# Altium footprint library ZYF_IC.PcbLib: 25 footprints (part 1 of 2)
Each footprint in its own frame and in the unit in brackets; x right, y up, seen from the top. Pads: shape width x height; smd on the part's side, far side on the other; paste and mask are expansions set on the pad; w line width, h text height; cw(c..) or ccw(c..) is an arc to the next point about the centre after c.
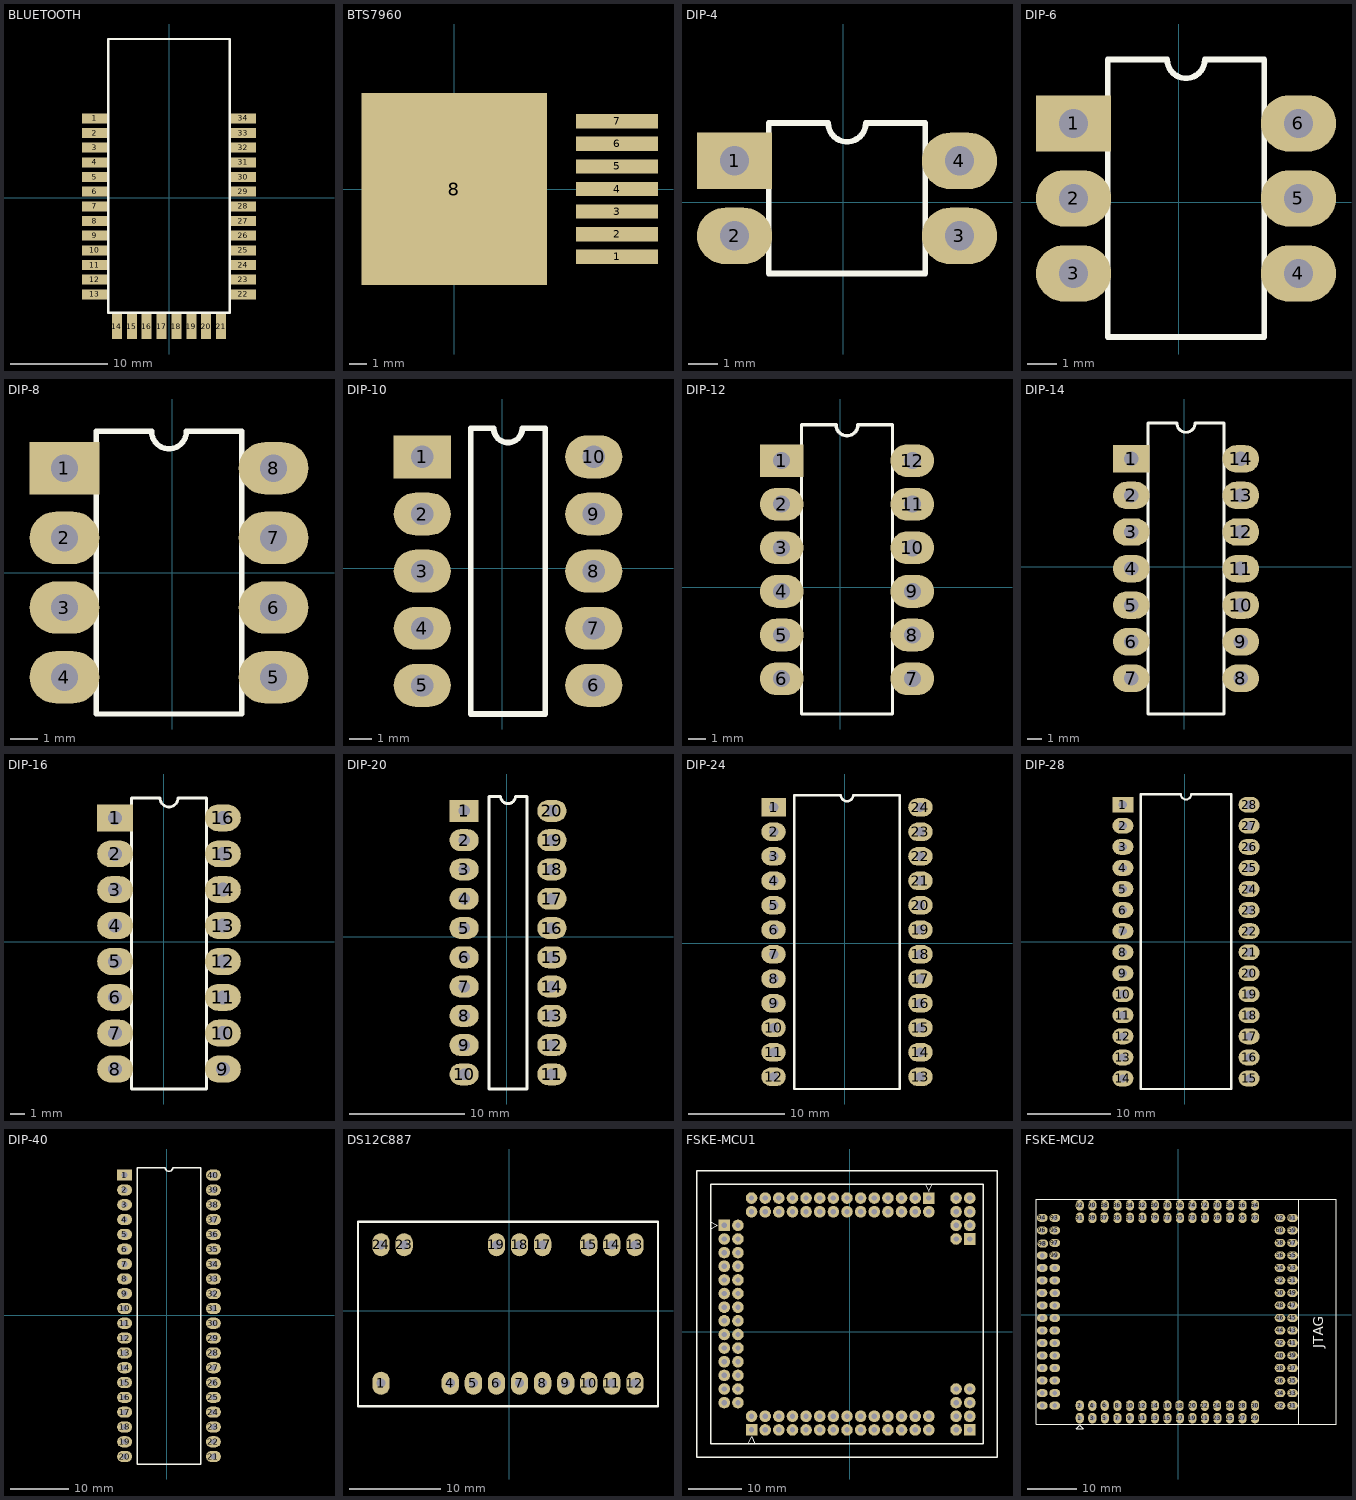
[diagram p0: the footprints below, top view; thin cyan lines are the x and y axes]

## BLUETOOTH [mil]
pads (34):
  rect 100x40 smd: 1(-300,320) 2(-300,260.83) 3(-300,201.67) 4(-300,142.5) 5(-300,83.33) 6(-300,24.17) 7(-300,-35) 8(-300,-94.17) 9(-300,-153.33) 10(-300,-212.5) 11(-300,-271.67) 12(-300,-330.83) 13(-300,-390) 22(300,-390) 23(300,-330.83) 24(300,-271.67) 25(300,-212.5) 26(300,-153.33) 27(300,-94.17) 28(300,-35) 29(300,24.17) 30(300,83.33) 31(300,142.5) 32(300,201.67) 33(300,260.83) 34(300,320)
  rect 40x100 smd: 14(-210,-520) 15(-150,-520) 16(-90,-520) 17(-30,-520) 18(30,-520) 19(90,-520) 20(150,-520) 21(210,-520)
Top Overlay:
  lines w10: -245,-465 -245,640 245,640 245,-465 -245,-465

## BTS7960 [mm]
pads (8):
  rect 4.6x0.8 smd: 1(9.144,-3.81) 2(9.144,-2.54) 3(9.144,-1.27) 4(9.144,0) 5(9.144,1.27) 6(9.144,2.54) 7(9.144,3.81)
  rect 10.414x10.8 smd: 8(0,0)

## DIP-4 [mil]
pads (4):
  rect 100x75 hole 39: 1(-145,55)
  oval 100x75 hole 39: 2(-145,-45) 3(155,-45) 4(155,55)
Top Overlay:
  lines w7.87: -99.33,-95.39 -99.33,105.39 -20,105.39 ccw(c5,105.39) 30,105.39 109.33,105.39 109.33,-95.39 -99.33,-95.39

## DIP-6 [mil]
pads (6):
  rect 100x75 hole 39 paste+0 mask+4: 1(-140,105)
  oval 100x75 hole 39 paste+0 mask+4: 2(-140,5) 3(-140,-95) 4(160,-95) 5(160,5) 6(160,105)
Top Overlay:
  lines w7.87: -94.33,-180.04 114.33,-180.04 114.33,190.04 35,190.04 cw(c10,190.04) -15,190.04 -94.33,190.04 -94.33,-180.04

## DIP-8 [mil]
pads (8):
  rect 100x75 hole 39: 1(-155,150)
  oval 100x75 hole 39: 2(-155,50) 3(-155,-50) 4(-155,-150) 5(145,-150) 6(145,-50) 7(145,50) 8(145,150)
Top Overlay:
  lines w7.87: -109.33,-202.76 99.33,-202.76 99.33,202.76 20,202.76 cw(c-5,202.76) -30,202.76 -109.33,202.76 -109.33,-202.76

## DIP-10 [mil]
pads (10):
  rect 100x75 hole 39: 1(-140,195)
  oval 100x75 hole 39: 2(-140,95) 3(-140,-5) 4(-140,-105) 5(-140,-205) 6(160,-205) 7(160,-105) 8(160,-5) 9(160,95) 10(160,195)
Top Overlay:
  lines w10: -55,-255 -55,245 -15,245 ccw(c10,245) 35,245 75,245 75,-255 -55,-255

## DIP-12 [mil]
pads (12):
  rect 100x75 hole 39: 1(-135,290)
  oval 100x75 hole 39: 2(-135,190) 3(-135,90) 4(-135,-10) 5(-135,-110) 6(-135,-210) 7(165,-210) 8(165,-110) 9(165,-10) 10(165,90) 11(165,190) 12(165,290)
Top Overlay:
  lines w7.87: -89.33,-291.1 119.33,-291.1 119.33,371.89 40,371.89 cw(c15,371.89) -10,371.89 -89.33,371.89 -89.33,-291.1

## DIP-14 [mil]
pads (14):
  rect 100x75 hole 39: 1(-145,295)
  oval 100x75 hole 39: 2(-145,195) 3(-145,95) 4(-145,-5) 5(-145,-105) 6(-145,-205) 7(-145,-305) 8(155,-305) 9(155,-205) 10(155,-105) 11(155,-5) 12(155,95) 13(155,195) 14(155,295)
Top Overlay:
  lines w7.87: -99.33,-402.64 -99.33,392.64 -20,392.64 ccw(c5,392.64) 30,392.64 109.33,392.64 109.33,-402.64 -99.33,-402.64

## DIP-16 [mil]
pads (16):
  rect 100x75 hole 39: 1(-135,345)
  oval 100x75 hole 39: 2(-135,245) 3(-135,145) 4(-135,45) 5(-135,-55) 6(-135,-155) 7(-135,-255) 8(-135,-355) 9(165,-355) 10(165,-255) 11(165,-155) 12(165,-55) 13(165,45) 14(165,145) 15(165,245) 16(165,345)
Top Overlay:
  lines w7.87: -89.33,-410.51 119.33,-410.51 119.33,400.51 40,400.51 cw(c15,400.51) -10,400.51 -89.33,400.51 -89.33,-410.51

## DIP-20 [mil]
pads (20):
  rect 100x75 hole 39: 1(-145,430)
  oval 100x75 hole 39: 2(-145,330) 3(-145,230) 4(-145,130) 5(-145,30) 6(-145,-70) 7(-145,-170) 8(-145,-270) 9(-145,-370) 10(-145,-470) 11(155,-470) 12(155,-370) 13(155,-270) 14(155,-170) 15(155,-70) 16(155,30) 17(155,130) 18(155,230) 19(155,330) 20(155,430)
Top Overlay:
  lines w10: -60,-520 -60,480 -20,480 ccw(c5,480) 30,480 70,480 70,-520 -60,-520

## DIP-24 [mil]
pads (24):
  rect 100x75 hole 39: 1(-290,555)
  oval 100x75 hole 39: 2(-290,455) 3(-290,355) 4(-290,255) 5(-290,155) 6(-290,55) 7(-290,-45) 8(-290,-145) 9(-290,-245) 10(-290,-345) 11(-290,-445) 12(-290,-545) 13(310,-545) 14(310,-445) 15(310,-345) 16(310,-245) 17(310,-145) 18(310,-45) 19(310,55) 20(310,155) 21(310,255) 22(310,355) 23(310,455) 24(310,555)
Top Overlay:
  lines w10: -205,-595 -205,605 -15,605 ccw(c10,605) 35,605 225,605 225,-595 -205,-595

## DIP-28 [mil]
pads (28):
  rect 100x75 hole 39: 1(-295,650)
  oval 100x75 hole 39: 2(-295,550) 3(-295,450) 4(-295,350) 5(-295,250) 6(-295,150) 7(-295,50) 8(-295,-50) 9(-295,-150) 10(-295,-250) 11(-295,-350) 12(-295,-450) 13(-295,-550) 14(-295,-650) 15(305,-650) 16(305,-550) 17(305,-450) 18(305,-350) 19(305,-250) 20(305,-150) 21(305,-50) 22(305,50) 23(305,150) 24(305,250) 25(305,350) 26(305,450) 27(305,550) 28(305,650)
Top Overlay:
  lines w10: -210,-700 220,-700 220,700 30,700 cw(c5,700) -20,700 -210,700 -210,-700

## DIP-40 [mil]
pads (40):
  rect 100x75 hole 39: 1(-285,945)
  oval 100x75 hole 39: 2(-285,845) 3(-285,745) 4(-285,645) 5(-285,545) 6(-285,445) 7(-285,345) 8(-285,245) 9(-285,145) 10(-285,45) 11(-285,-55) 12(-285,-155) 13(-285,-255) 14(-285,-355) 15(-285,-455) 16(-285,-555) 17(-285,-655) 18(-285,-755) 19(-285,-855) 20(-285,-955) 21(315,-955) 22(315,-855) 23(315,-755) 24(315,-655) 25(315,-555) 26(315,-455) 27(315,-355) 28(315,-255) 29(315,-155) 30(315,-55) 31(315,45) 32(315,145) 33(315,245) 34(315,345) 35(315,445) 36(315,545) 37(315,645) 38(315,745) 39(315,845) 40(315,945)
Top Overlay:
  lines w10: -200,-1005 230,-1005 230,995 40,995 cw(c15,995) -10,995 -200,995 -200,-1005

## DS12C887 [mil]
pads (18):
  oval 75x100 hole 39: 1(-555,-315) 4(-255,-315) 5(-155,-315) 6(-55,-315) 7(45,-315) 8(145,-315) 9(245,-315) 10(345,-315) 11(445,-315) 12(545,-315) 13(545,285) 14(445,285) 15(345,285) 17(145,285) 18(45,285) 19(-55,285) 23(-455,285) 24(-555,285)
Top Overlay:
  lines w10: -655,-415 645,-415 645,385 -655,385 -655,-415

## FSKE-MCU1 [mil]
pads (100):
  rect 85x85 hole 39 paste+0: 101(-720,-720) 201(-920,780) 301(580,980) 401(880,-720) 501(880,680)
  round 85 hole 39 paste+0: 102(-720,-620) 103(-620,-720) 104(-620,-620) 105(-520,-720) 106(-520,-620) 107(-420,-720) 108(-420,-620) 109(-320,-720) 110(-320,-620) 111(-220,-720) 112(-220,-620) 113(-120,-720) 114(-120,-620) 115(-20,-720) 116(-20,-620) 117(80,-720) 118(80,-620) 119(180,-720) 120(180,-620) 121(280,-720) 122(280,-620) 123(380,-720) 124(380,-620) 125(480,-720) 126(480,-620) 127(580,-720) 128(580,-620) 202(-820,780) 203(-920,680) 204(-820,680) 205(-920,580) 206(-820,580) 207(-920,480) 208(-820,480) 209(-920,380) 210(-820,380) 211(-920,280) 212(-820,280) 213(-920,180) 214(-820,180) 215(-920,80) 216(-820,80) 217(-920,-20) 218(-820,-20) 219(-920,-120) 220(-820,-120) 221(-920,-220) 222(-820,-220) 223(-920,-320) 224(-820,-320) 225(-920,-420) 226(-820,-420) 227(-920,-520) 228(-820,-520) 302(580,880) 303(480,980) 304(480,880) 305(380,980) 306(380,880) 307(280,980) 308(280,880) 309(180,980) 310(180,880) 311(80,980) 312(80,880) 313(-20,980) 314(-20,880) 315(-120,980) 316(-120,880) 317(-220,980) 318(-220,880) 319(-320,980) 320(-320,880) 321(-420,980) 322(-420,880) 323(-520,980) 324(-520,880) 325(-620,980) 326(-620,880) 327(-720,980) 328(-720,880) 402(780,-720) 403(880,-620) 404(780,-620) 405(880,-520) 406(780,-520) 407(880,-420) 408(780,-420) 502(780,680) 503(880,780) 504(780,780) 505(880,880) 506(780,880) 507(880,980) 508(780,980)
Top Overlay:
  lines w8: -1020,755 -970,780 -1020,805 ; -745,-820 -720,-770 -695,-820 ; 555,1080 580,1030 605,1080
  lines w10: -1120,-920 -1120,1140 -1120,1180 1080,1180 1080,-920 -1120,-920 ; -1020,-820 -1020,1080 980,1080 980,-820 -1020,-820

## FSKE-MCU2 [mil]
pads (124):
  oval 65x85 hole 39: 1(-785,-825) 2(-785,-725) 3(-685,-825) 4(-685,-725) 5(-585,-825) 6(-585.39,-724.21) 7(-485,-825) 8(-485,-725) 9(-385,-825) 10(-385,-725) 11(-285,-825) 12(-284.21,-725) 13(-185,-825) 14(-185,-725) 15(-85,-825) 16(-85,-725) 17(15,-825) 18(11.85,-725) 19(115,-825) 20(117.36,-725) 21(215,-825) 22(213.82,-725) 23(315,-825) 24(312.64,-725) 25(415,-825) 26(415.39,-725) 27(515,-825) 28(515,-725) 29(615,-825) 30(615.39,-725) 63(615,775) 64(615,875) 65(515,775) 66(515,875) 67(415,776.97) 68(415,875) 69(315,775) 70(315,875) 71(215,775) 72(215,875) 73(115,775) 74(115,875) 75(15,775) 76(15,875) 77(-85,775) 78(-85,875) 79(-185,775) 80(-185,875) 81(-285,775) 82(-285,875) 83(-385,775) 84(-385,875) 85(-485,775) 86(-485,875) 87(-590.12,777.36) 88(-585,875) 89(-685,775) 90(-685,875) 91(-785,775) 92(-785,875)
  oval 85x65 hole 39: 31(915,-725) 32(815,-725) 33(915,-625) 34(815,-625) 35(915,-525) 36(815,-525) 37(915,-425) 38(815,-425) 39(915,-324.21) 40(815,-325) 41(915,-225) 42(815,-224.61) 43(915,-125) 44(815,-125) 45(915,-25) 46(815,-25) 47(915,75) 48(815,75) 49(915,175) 50(815,175) 51(915,275) 52(815,275) 53(915,375) 54(815,375) 55(915,475) 56(815,475) 57(915,575) 58(815,575) 59(915,675) 60(815,675) 61(915,775) 62(815,775) 93(-985,775) 94(-1085,775) 95(-985,675) 96(-1085,675) 97(-985,575) 98(-1079.88,569.09) 99(-985,475) 100(-1085,475) 101(-985,375) 102(-1085,375) 103(-985,275) 104(-1085,275) 105(-983.82,174.61) 106(-1086.97,175.39) 107(-985,75) 108(-1085,75) 109(-985,-25) 110(-1085,-25) 111(-985,-125) 112(-1085,-125) 113(-985,-225) 114(-1085,-225) 115(-985,-325) 116(-1085,-325) 117(-985,-425) 118(-1085,-425) 119(-985,-525) 120(-1085,-525) 121(-985,-625) 122(-1085,-625) 123(-985,-725) 124(-1085,-725)
Top Overlay:
  lines w7.87: -786.18,-884.06 -759.02,-911.61 -813.35,-911.61 -785.79,-884.06 ; 965,-875 965,925 ; -1135,-875 -1135,925 1262.24,925 1262.24,-875 -1135,-875
  text "JTAG" at 1160.67,-265.94 h78.74